# Altium footprint library IPC-7355 QFP_Shrink_Sq_40P_Side_M.PcbLib: 26 footprints (part 2 of 3)
Each footprint in its own frame and in the unit in brackets; x right, y up, seen from the top. Pads: shape width x height; smd on the part's side, far side on the other; paste and mask are expansions set on the pad; w line width, h text height; cw(c..) or ccw(c..) is an arc to the next point about the centre after c.
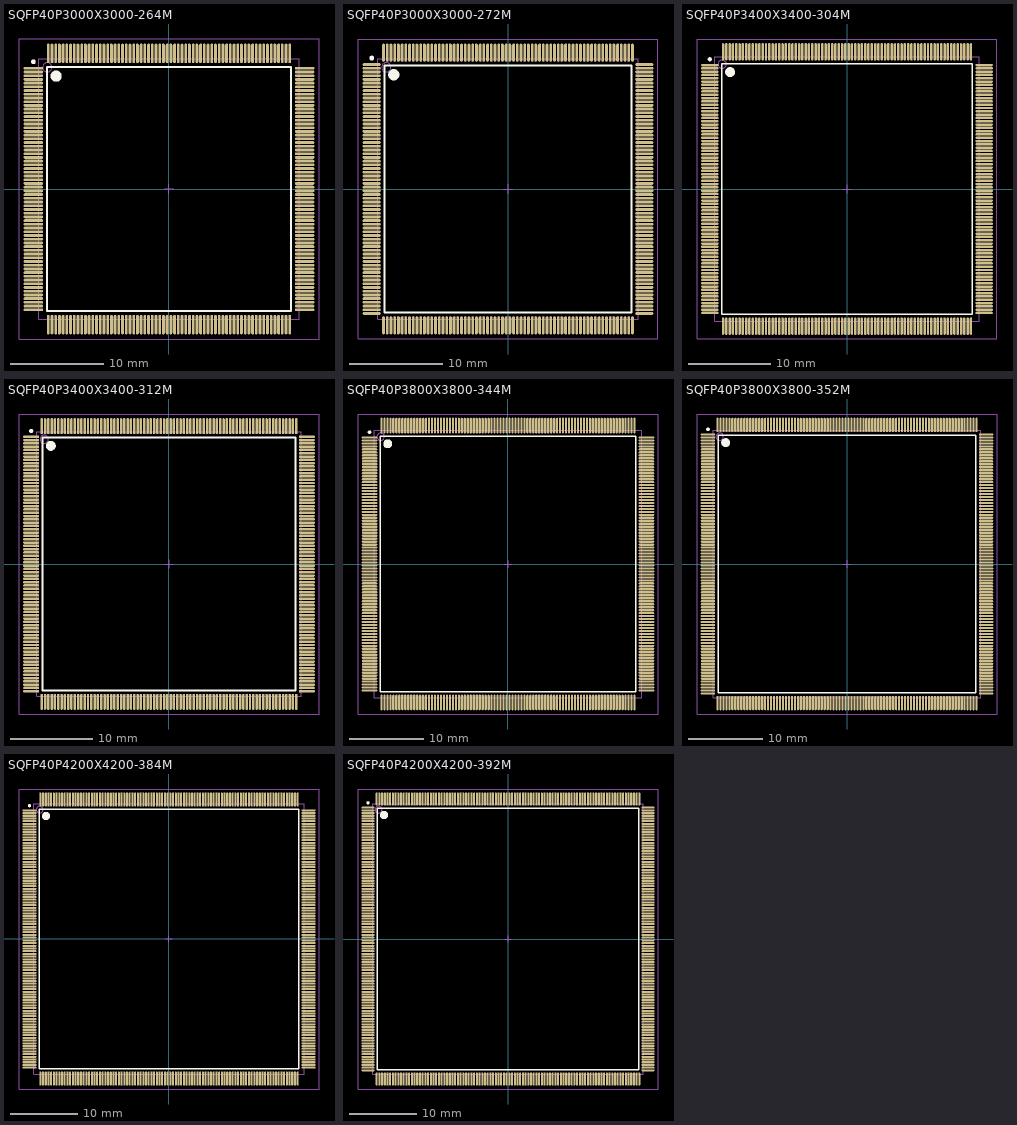
[diagram p1: the footprints below, top view; thin cyan lines are the x and y axes]

## SQFP40P3000X3000-264M [mm] "Shrink QFP, 264-Leads, Body 28x28mm, Pitch 0.4mm, IPC Low Density"
height 3.75
pads (264):
  oval 2.1x0.3 smd: 1(-14.6,13) 2(-14.6,12.6) 3(-14.6,12.2) 4(-14.6,11.8) 5(-14.6,11.4) 6(-14.6,11) 7(-14.6,10.6) 8(-14.6,10.2) 9(-14.6,9.8) 10(-14.6,9.4) 11(-14.6,9) 12(-14.6,8.6) 13(-14.6,8.2) 14(-14.6,7.8) 15(-14.6,7.4) 16(-14.6,7) 17(-14.6,6.6) 18(-14.6,6.2) 19(-14.6,5.8) 20(-14.6,5.4) 21(-14.6,5) 22(-14.6,4.6) 23(-14.6,4.2) 24(-14.6,3.8) 25(-14.6,3.4) 26(-14.6,3) 27(-14.6,2.6) 28(-14.6,2.2) 29(-14.6,1.8) 30(-14.6,1.4) 31(-14.6,1) 32(-14.6,0.6) 33(-14.6,0.2) 34(-14.6,-0.2) 35(-14.6,-0.6) 36(-14.6,-1) 37(-14.6,-1.4) 38(-14.6,-1.8) 39(-14.6,-2.2) 40(-14.6,-2.6) 41(-14.6,-3) 42(-14.6,-3.4) 43(-14.6,-3.8) 44(-14.6,-4.2) 45(-14.6,-4.6) 46(-14.6,-5) 47(-14.6,-5.4) 48(-14.6,-5.8) 49(-14.6,-6.2) 50(-14.6,-6.6) 51(-14.6,-7) 52(-14.6,-7.4) 53(-14.6,-7.8) 54(-14.6,-8.2) 55(-14.6,-8.6) 56(-14.6,-9) 57(-14.6,-9.4) 58(-14.6,-9.8) 59(-14.6,-10.2) 60(-14.6,-10.6) 61(-14.6,-11) 62(-14.6,-11.4) 63(-14.6,-11.8) 64(-14.6,-12.2) 65(-14.6,-12.6) 66(-14.6,-13) 133(14.6,-13) 134(14.6,-12.6) 135(14.6,-12.2) 136(14.6,-11.8) 137(14.6,-11.4) 138(14.6,-11) 139(14.6,-10.6) 140(14.6,-10.2) 141(14.6,-9.8) 142(14.6,-9.4) 143(14.6,-9) 144(14.6,-8.6) 145(14.6,-8.2) 146(14.6,-7.8) 147(14.6,-7.4) 148(14.6,-7) 149(14.6,-6.6) 150(14.6,-6.2) 151(14.6,-5.8) 152(14.6,-5.4) 153(14.6,-5) 154(14.6,-4.6) 155(14.6,-4.2) 156(14.6,-3.8) 157(14.6,-3.4) 158(14.6,-3) 159(14.6,-2.6) 160(14.6,-2.2) 161(14.6,-1.8) 162(14.6,-1.4) 163(14.6,-1) 164(14.6,-0.6) 165(14.6,-0.2) 166(14.6,0.2) 167(14.6,0.6) 168(14.6,1) 169(14.6,1.4) 170(14.6,1.8) 171(14.6,2.2) 172(14.6,2.6) 173(14.6,3) 174(14.6,3.4) 175(14.6,3.8) 176(14.6,4.2) 177(14.6,4.6) 178(14.6,5) 179(14.6,5.4) 180(14.6,5.8) 181(14.6,6.2) 182(14.6,6.6) 183(14.6,7) 184(14.6,7.4) 185(14.6,7.8) 186(14.6,8.2) 187(14.6,8.6) 188(14.6,9) 189(14.6,9.4) 190(14.6,9.8) 191(14.6,10.2) 192(14.6,10.6) 193(14.6,11) 194(14.6,11.4) 195(14.6,11.8) 196(14.6,12.2) 197(14.6,12.6) 198(14.6,13)
  oval 0.3x2.1 smd: 67(-13,-14.6) 68(-12.6,-14.6) 69(-12.2,-14.6) 70(-11.8,-14.6) 71(-11.4,-14.6) 72(-11,-14.6) 73(-10.6,-14.6) 74(-10.2,-14.6) 75(-9.8,-14.6) 76(-9.4,-14.6) 77(-9,-14.6) 78(-8.6,-14.6) 79(-8.2,-14.6) 80(-7.8,-14.6) 81(-7.4,-14.6) 82(-7,-14.6) 83(-6.6,-14.6) 84(-6.2,-14.6) 85(-5.8,-14.6) 86(-5.4,-14.6) 87(-5,-14.6) 88(-4.6,-14.6) 89(-4.2,-14.6) 90(-3.8,-14.6) 91(-3.4,-14.6) 92(-3,-14.6) 93(-2.6,-14.6) 94(-2.2,-14.6) 95(-1.8,-14.6) 96(-1.4,-14.6) 97(-1,-14.6) 98(-0.6,-14.6) 99(-0.2,-14.6) 100(0.2,-14.6) 101(0.6,-14.6) 102(1,-14.6) 103(1.4,-14.6) 104(1.8,-14.6) 105(2.2,-14.6) 106(2.6,-14.6) 107(3,-14.6) 108(3.4,-14.6) 109(3.8,-14.6) 110(4.2,-14.6) 111(4.6,-14.6) 112(5,-14.6) 113(5.4,-14.6) 114(5.8,-14.6) 115(6.2,-14.6) 116(6.6,-14.6) 117(7,-14.6) 118(7.4,-14.6) 119(7.8,-14.6) 120(8.2,-14.6) 121(8.6,-14.6) 122(9,-14.6) 123(9.4,-14.6) 124(9.8,-14.6) 125(10.2,-14.6) 126(10.6,-14.6) 127(11,-14.6) 128(11.4,-14.6) 129(11.8,-14.6) 130(12.2,-14.6) 131(12.6,-14.6) 132(13,-14.6) 199(13,14.6) 200(12.6,14.6) 201(12.2,14.6) 202(11.8,14.6) 203(11.4,14.6) 204(11,14.6) 205(10.6,14.6) 206(10.2,14.6) 207(9.8,14.6) 208(9.4,14.6) 209(9,14.6) 210(8.6,14.6) 211(8.2,14.6) 212(7.8,14.6) 213(7.4,14.6) 214(7,14.6) 215(6.6,14.6) 216(6.2,14.6) 217(5.8,14.6) 218(5.4,14.6) 219(5,14.6) 220(4.6,14.6) 221(4.2,14.6) 222(3.8,14.6) 223(3.4,14.6) 224(3,14.6) 225(2.6,14.6) 226(2.2,14.6) 227(1.8,14.6) 228(1.4,14.6) 229(1,14.6) 230(0.6,14.6) 231(0.2,14.6) 232(-0.2,14.6) 233(-0.6,14.6) 234(-1,14.6) 235(-1.4,14.6) 236(-1.8,14.6) 237(-2.2,14.6) 238(-2.6,14.6) 239(-3,14.6) 240(-3.4,14.6) 241(-3.8,14.6) 242(-4.2,14.6) 243(-4.6,14.6) 244(-5,14.6) 245(-5.4,14.6) 246(-5.8,14.6) 247(-6.2,14.6) 248(-6.6,14.6) 249(-7,14.6) 250(-7.4,14.6) 251(-7.8,14.6) 252(-8.2,14.6) 253(-8.6,14.6) 254(-9,14.6) 255(-9.4,14.6) 256(-9.8,14.6) 257(-10.2,14.6) 258(-10.6,14.6) 259(-11,14.6) 260(-11.4,14.6) 261(-11.8,14.6) 262(-12.2,14.6) 263(-12.6,14.6) 264(-13,14.6)
Top Overlay:
  circle w0.6: c-12.15,12.15 r0.3
  circle w0.25: c-14.6,13.7 r0.125
  lines w0.2: -13.15,-13.15 13.15,-13.15 13.15,13.15 -13.15,13.15 -13.15,-13.15
Mechanical 13:
  circle w0.1: c-13.1,13.1 r0.5
  lines w0.1: -14,-14 14,-14 14,14 -14,14 -14,-14
Mechanical 15:
  lines w0.1: -0.5,0 0.5,0 ; 0,-0.5 0,0.5 ; -16.15,-16.15 16.15,-16.15 16.15,16.15 -16.15,16.15 -16.15,-16.15
3D body: height 3.75, standoff 0, extent -14,-14 14,14

## SQFP40P3000X3000-272M [mm] "Shrink QFP, 272-Leads, Body 28x28mm, Pitch 0.4mm, IPC Low Density"
height 3.75
pads (272):
  oval 1.95x0.3 smd: 1(-14.675,13.4) 2(-14.675,13) 3(-14.675,12.6) 4(-14.675,12.2) 5(-14.675,11.8) 6(-14.675,11.4) 7(-14.675,11) 8(-14.675,10.6) 9(-14.675,10.2) 10(-14.675,9.8) 11(-14.675,9.4) 12(-14.675,9) 13(-14.675,8.6) 14(-14.675,8.2) 15(-14.675,7.8) 16(-14.675,7.4) 17(-14.675,7) 18(-14.675,6.6) 19(-14.675,6.2) 20(-14.675,5.8) 21(-14.675,5.4) 22(-14.675,5) 23(-14.675,4.6) 24(-14.675,4.2) 25(-14.675,3.8) 26(-14.675,3.4) 27(-14.675,3) 28(-14.675,2.6) 29(-14.675,2.2) 30(-14.675,1.8) 31(-14.675,1.4) 32(-14.675,1) 33(-14.675,0.6) 34(-14.675,0.2) 35(-14.675,-0.2) 36(-14.675,-0.6) 37(-14.675,-1) 38(-14.675,-1.4) 39(-14.675,-1.8) 40(-14.675,-2.2) 41(-14.675,-2.6) 42(-14.675,-3) 43(-14.675,-3.4) 44(-14.675,-3.8) 45(-14.675,-4.2) 46(-14.675,-4.6) 47(-14.675,-5) 48(-14.675,-5.4) 49(-14.675,-5.8) 50(-14.675,-6.2) 51(-14.675,-6.6) 52(-14.675,-7) 53(-14.675,-7.4) 54(-14.675,-7.8) 55(-14.675,-8.2) 56(-14.675,-8.6) 57(-14.675,-9) 58(-14.675,-9.4) 59(-14.675,-9.8) 60(-14.675,-10.2) 61(-14.675,-10.6) 62(-14.675,-11) 63(-14.675,-11.4) 64(-14.675,-11.8) 65(-14.675,-12.2) 66(-14.675,-12.6) 67(-14.675,-13) 68(-14.675,-13.4) 137(14.675,-13.4) 138(14.675,-13) 139(14.675,-12.6) 140(14.675,-12.2) 141(14.675,-11.8) 142(14.675,-11.4) 143(14.675,-11) 144(14.675,-10.6) 145(14.675,-10.2) 146(14.675,-9.8) 147(14.675,-9.4) 148(14.675,-9) 149(14.675,-8.6) 150(14.675,-8.2) 151(14.675,-7.8) 152(14.675,-7.4) 153(14.675,-7) 154(14.675,-6.6) 155(14.675,-6.2) 156(14.675,-5.8) 157(14.675,-5.4) 158(14.675,-5) 159(14.675,-4.6) 160(14.675,-4.2) 161(14.675,-3.8) 162(14.675,-3.4) 163(14.675,-3) 164(14.675,-2.6) 165(14.675,-2.2) 166(14.675,-1.8) 167(14.675,-1.4) 168(14.675,-1) 169(14.675,-0.6) 170(14.675,-0.2) 171(14.675,0.2) 172(14.675,0.6) 173(14.675,1) 174(14.675,1.4) 175(14.675,1.8) 176(14.675,2.2) 177(14.675,2.6) 178(14.675,3) 179(14.675,3.4) 180(14.675,3.8) 181(14.675,4.2) 182(14.675,4.6) 183(14.675,5) 184(14.675,5.4) 185(14.675,5.8) 186(14.675,6.2) 187(14.675,6.6) 188(14.675,7) 189(14.675,7.4) 190(14.675,7.8) 191(14.675,8.2) 192(14.675,8.6) 193(14.675,9) 194(14.675,9.4) 195(14.675,9.8) 196(14.675,10.2) 197(14.675,10.6) 198(14.675,11) 199(14.675,11.4) 200(14.675,11.8) 201(14.675,12.2) 202(14.675,12.6) 203(14.675,13) 204(14.675,13.4)
  oval 0.3x1.95 smd: 69(-13.4,-14.675) 70(-13,-14.675) 71(-12.6,-14.675) 72(-12.2,-14.675) 73(-11.8,-14.675) 74(-11.4,-14.675) 75(-11,-14.675) 76(-10.6,-14.675) 77(-10.2,-14.675) 78(-9.8,-14.675) 79(-9.4,-14.675) 80(-9,-14.675) 81(-8.6,-14.675) 82(-8.2,-14.675) 83(-7.8,-14.675) 84(-7.4,-14.675) 85(-7,-14.675) 86(-6.6,-14.675) 87(-6.2,-14.675) 88(-5.8,-14.675) 89(-5.4,-14.675) 90(-5,-14.675) 91(-4.6,-14.675) 92(-4.2,-14.675) 93(-3.8,-14.675) 94(-3.4,-14.675) 95(-3,-14.675) 96(-2.6,-14.675) 97(-2.2,-14.675) 98(-1.8,-14.675) 99(-1.4,-14.675) 100(-1,-14.675) 101(-0.6,-14.675) 102(-0.2,-14.675) 103(0.2,-14.675) 104(0.6,-14.675) 105(1,-14.675) 106(1.4,-14.675) 107(1.8,-14.675) 108(2.2,-14.675) 109(2.6,-14.675) 110(3,-14.675) 111(3.4,-14.675) 112(3.8,-14.675) 113(4.2,-14.675) 114(4.6,-14.675) 115(5,-14.675) 116(5.4,-14.675) 117(5.8,-14.675) 118(6.2,-14.675) 119(6.6,-14.675) 120(7,-14.675) 121(7.4,-14.675) 122(7.8,-14.675) 123(8.2,-14.675) 124(8.6,-14.675) 125(9,-14.675) 126(9.4,-14.675) 127(9.8,-14.675) 128(10.2,-14.675) 129(10.6,-14.675) 130(11,-14.675) 131(11.4,-14.675) 132(11.8,-14.675) 133(12.2,-14.675) 134(12.6,-14.675) 135(13,-14.675) 136(13.4,-14.675) 205(13.4,14.675) 206(13,14.675) 207(12.6,14.675) 208(12.2,14.675) 209(11.8,14.675) 210(11.4,14.675) 211(11,14.675) 212(10.6,14.675) 213(10.2,14.675) 214(9.8,14.675) 215(9.4,14.675) 216(9,14.675) 217(8.6,14.675) 218(8.2,14.675) 219(7.8,14.675) 220(7.4,14.675) 221(7,14.675) 222(6.6,14.675) 223(6.2,14.675) 224(5.8,14.675) 225(5.4,14.675) 226(5,14.675) 227(4.6,14.675) 228(4.2,14.675) 229(3.8,14.675) 230(3.4,14.675) 231(3,14.675) 232(2.6,14.675) 233(2.2,14.675) 234(1.8,14.675) 235(1.4,14.675) 236(1,14.675) 237(0.6,14.675) 238(0.2,14.675) 239(-0.2,14.675) 240(-0.6,14.675) 241(-1,14.675) 242(-1.4,14.675) 243(-1.8,14.675) 244(-2.2,14.675) 245(-2.6,14.675) 246(-3,14.675) 247(-3.4,14.675) 248(-3.8,14.675) 249(-4.2,14.675) 250(-4.6,14.675) 251(-5,14.675) 252(-5.4,14.675) 253(-5.8,14.675) 254(-6.2,14.675) 255(-6.6,14.675) 256(-7,14.675) 257(-7.4,14.675) 258(-7.8,14.675) 259(-8.2,14.675) 260(-8.6,14.675) 261(-9,14.675) 262(-9.4,14.675) 263(-9.8,14.675) 264(-10.2,14.675) 265(-10.6,14.675) 266(-11,14.675) 267(-11.4,14.675) 268(-11.8,14.675) 269(-12.2,14.675) 270(-12.6,14.675) 271(-13,14.675) 272(-13.4,14.675)
Top Overlay:
  circle w0.6: c-12.3,12.3 r0.3
  circle w0.25: c-14.675,14.1 r0.125
  lines w0.2: -13.3,-13.3 13.3,-13.3 13.3,13.3 -13.3,13.3 -13.3,-13.3
Mechanical 13:
  circle w0.1: c-13.1,13.1 r0.5
  lines w0.1: -14,-14 14,-14 14,14 -14,14 -14,-14
Mechanical 15:
  lines w0.1: -0.5,0 0.5,0 ; 0,-0.5 0,0.5 ; -16.15,-16.15 16.15,-16.15 16.15,16.15 -16.15,16.15 -16.15,-16.15
3D body: height 3.75, standoff 0, extent -14,-14 14,14

## SQFP40P3400X3400-304M [mm] "Shrink QFP, 304-Leads, Body 32x32mm, Pitch 0.4mm, IPC Low Density"
height 4.2
pads (304):
  oval 2.1x0.3 smd: 1(-16.6,15) 2(-16.6,14.6) 3(-16.6,14.2) 4(-16.6,13.8) 5(-16.6,13.4) 6(-16.6,13) 7(-16.6,12.6) 8(-16.6,12.2) 9(-16.6,11.8) 10(-16.6,11.4) 11(-16.6,11) 12(-16.6,10.6) 13(-16.6,10.2) 14(-16.6,9.8) 15(-16.6,9.4) 16(-16.6,9) 17(-16.6,8.6) 18(-16.6,8.2) 19(-16.6,7.8) 20(-16.6,7.4) 21(-16.6,7) 22(-16.6,6.6) 23(-16.6,6.2) 24(-16.6,5.8) 25(-16.6,5.4) 26(-16.6,5) 27(-16.6,4.6) 28(-16.6,4.2) 29(-16.6,3.8) 30(-16.6,3.4) 31(-16.6,3) 32(-16.6,2.6) 33(-16.6,2.2) 34(-16.6,1.8) 35(-16.6,1.4) 36(-16.6,1) 37(-16.6,0.6) 38(-16.6,0.2) 39(-16.6,-0.2) 40(-16.6,-0.6) 41(-16.6,-1) 42(-16.6,-1.4) 43(-16.6,-1.8) 44(-16.6,-2.2) 45(-16.6,-2.6) 46(-16.6,-3) 47(-16.6,-3.4) 48(-16.6,-3.8) 49(-16.6,-4.2) 50(-16.6,-4.6) 51(-16.6,-5) 52(-16.6,-5.4) 53(-16.6,-5.8) 54(-16.6,-6.2) 55(-16.6,-6.6) 56(-16.6,-7) 57(-16.6,-7.4) 58(-16.6,-7.8) 59(-16.6,-8.2) 60(-16.6,-8.6) 61(-16.6,-9) 62(-16.6,-9.4) 63(-16.6,-9.8) 64(-16.6,-10.2) 65(-16.6,-10.6) 66(-16.6,-11) 67(-16.6,-11.4) 68(-16.6,-11.8) 69(-16.6,-12.2) 70(-16.6,-12.6) 71(-16.6,-13) 72(-16.6,-13.4) 73(-16.6,-13.8) 74(-16.6,-14.2) 75(-16.6,-14.6) 76(-16.6,-15) 153(16.6,-15) 154(16.6,-14.6) 155(16.6,-14.2) 156(16.6,-13.8) 157(16.6,-13.4) 158(16.6,-13) 159(16.6,-12.6) 160(16.6,-12.2) 161(16.6,-11.8) 162(16.6,-11.4) 163(16.6,-11) 164(16.6,-10.6) 165(16.6,-10.2) 166(16.6,-9.8) 167(16.6,-9.4) 168(16.6,-9) 169(16.6,-8.6) 170(16.6,-8.2) 171(16.6,-7.8) 172(16.6,-7.4) 173(16.6,-7) 174(16.6,-6.6) 175(16.6,-6.2) 176(16.6,-5.8) 177(16.6,-5.4) 178(16.6,-5) 179(16.6,-4.6) 180(16.6,-4.2) 181(16.6,-3.8) 182(16.6,-3.4) 183(16.6,-3) 184(16.6,-2.6) 185(16.6,-2.2) 186(16.6,-1.8) 187(16.6,-1.4) 188(16.6,-1) 189(16.6,-0.6) 190(16.6,-0.2) 191(16.6,0.2) 192(16.6,0.6) 193(16.6,1) 194(16.6,1.4) 195(16.6,1.8) 196(16.6,2.2) 197(16.6,2.6) 198(16.6,3) 199(16.6,3.4) 200(16.6,3.8) 201(16.6,4.2) 202(16.6,4.6) 203(16.6,5) 204(16.6,5.4) 205(16.6,5.8) 206(16.6,6.2) 207(16.6,6.6) 208(16.6,7) 209(16.6,7.4) 210(16.6,7.8) 211(16.6,8.2) 212(16.6,8.6) 213(16.6,9) 214(16.6,9.4) 215(16.6,9.8) 216(16.6,10.2) 217(16.6,10.6) 218(16.6,11) 219(16.6,11.4) 220(16.6,11.8) 221(16.6,12.2) 222(16.6,12.6) 223(16.6,13) 224(16.6,13.4) 225(16.6,13.8) 226(16.6,14.2) 227(16.6,14.6) 228(16.6,15)
  oval 0.3x2.1 smd: 77(-15,-16.6) 78(-14.6,-16.6) 79(-14.2,-16.6) 80(-13.8,-16.6) 81(-13.4,-16.6) 82(-13,-16.6) 83(-12.6,-16.6) 84(-12.2,-16.6) 85(-11.8,-16.6) 86(-11.4,-16.6) 87(-11,-16.6) 88(-10.6,-16.6) 89(-10.2,-16.6) 90(-9.8,-16.6) 91(-9.4,-16.6) 92(-9,-16.6) 93(-8.6,-16.6) 94(-8.2,-16.6) 95(-7.8,-16.6) 96(-7.4,-16.6) 97(-7,-16.6) 98(-6.6,-16.6) 99(-6.2,-16.6) 100(-5.8,-16.6) 101(-5.4,-16.6) 102(-5,-16.6) 103(-4.6,-16.6) 104(-4.2,-16.6) 105(-3.8,-16.6) 106(-3.4,-16.6) 107(-3,-16.6) 108(-2.6,-16.6) 109(-2.2,-16.6) 110(-1.8,-16.6) 111(-1.4,-16.6) 112(-1,-16.6) 113(-0.6,-16.6) 114(-0.2,-16.6) 115(0.2,-16.6) 116(0.6,-16.6) 117(1,-16.6) 118(1.4,-16.6) 119(1.8,-16.6) 120(2.2,-16.6) 121(2.6,-16.6) 122(3,-16.6) 123(3.4,-16.6) 124(3.8,-16.6) 125(4.2,-16.6) 126(4.6,-16.6) 127(5,-16.6) 128(5.4,-16.6) 129(5.8,-16.6) 130(6.2,-16.6) 131(6.6,-16.6) 132(7,-16.6) 133(7.4,-16.6) 134(7.8,-16.6) 135(8.2,-16.6) 136(8.6,-16.6) 137(9,-16.6) 138(9.4,-16.6) 139(9.8,-16.6) 140(10.2,-16.6) 141(10.6,-16.6) 142(11,-16.6) 143(11.4,-16.6) 144(11.8,-16.6) 145(12.2,-16.6) 146(12.6,-16.6) 147(13,-16.6) 148(13.4,-16.6) 149(13.8,-16.6) 150(14.2,-16.6) 151(14.6,-16.6) 152(15,-16.6) 229(15,16.6) 230(14.6,16.6) 231(14.2,16.6) 232(13.8,16.6) 233(13.4,16.6) 234(13,16.6) 235(12.6,16.6) 236(12.2,16.6) 237(11.8,16.6) 238(11.4,16.6) 239(11,16.6) 240(10.6,16.6) 241(10.2,16.6) 242(9.8,16.6) 243(9.4,16.6) 244(9,16.6) 245(8.6,16.6) 246(8.2,16.6) 247(7.8,16.6) 248(7.4,16.6) 249(7,16.6) 250(6.6,16.6) 251(6.2,16.6) 252(5.8,16.6) 253(5.4,16.6) 254(5,16.6) 255(4.6,16.6) 256(4.2,16.6) 257(3.8,16.6) 258(3.4,16.6) 259(3,16.6) 260(2.6,16.6) 261(2.2,16.6) 262(1.8,16.6) 263(1.4,16.6) 264(1,16.6) 265(0.6,16.6) 266(0.2,16.6) 267(-0.2,16.6) 268(-0.6,16.6) 269(-1,16.6) 270(-1.4,16.6) 271(-1.8,16.6) 272(-2.2,16.6) 273(-2.6,16.6) 274(-3,16.6) 275(-3.4,16.6) 276(-3.8,16.6) 277(-4.2,16.6) 278(-4.6,16.6) 279(-5,16.6) 280(-5.4,16.6) 281(-5.8,16.6) 282(-6.2,16.6) 283(-6.6,16.6) 284(-7,16.6) 285(-7.4,16.6) 286(-7.8,16.6) 287(-8.2,16.6) 288(-8.6,16.6) 289(-9,16.6) 290(-9.4,16.6) 291(-9.8,16.6) 292(-10.2,16.6) 293(-10.6,16.6) 294(-11,16.6) 295(-11.4,16.6) 296(-11.8,16.6) 297(-12.2,16.6) 298(-12.6,16.6) 299(-13,16.6) 300(-13.4,16.6) 301(-13.8,16.6) 302(-14.2,16.6) 303(-14.6,16.6) 304(-15,16.6)
Top Overlay:
  circle w0.6: c-14.15,14.15 r0.3
  circle w0.25: c-16.6,15.7 r0.125
  lines w0.2: -15.15,-15.15 15.15,-15.15 15.15,15.15 -15.15,15.15 -15.15,-15.15
Mechanical 13:
  circle w0.1: c-15.1,15.1 r0.5
  lines w0.1: -16,-16 16,-16 16,16 -16,16 -16,-16
Mechanical 15:
  lines w0.1: -0.5,0 0.5,0 ; 0,-0.5 0,0.5 ; -18.15,-18.15 18.15,-18.15 18.15,18.15 -18.15,18.15 -18.15,-18.15
3D body: height 4.2, standoff 0, extent -16,-16 16,16

## SQFP40P3400X3400-312M [mm] "Shrink QFP, 312-Leads, Body 32x32mm, Pitch 0.4mm, IPC Low Density"
height 4.2
pads (312):
  oval 1.95x0.3 smd: 1(-16.675,15.4) 2(-16.675,15) 3(-16.675,14.6) 4(-16.675,14.2) 5(-16.675,13.8) 6(-16.675,13.4) 7(-16.675,13) 8(-16.675,12.6) 9(-16.675,12.2) 10(-16.675,11.8) 11(-16.675,11.4) 12(-16.675,11) 13(-16.675,10.6) 14(-16.675,10.2) 15(-16.675,9.8) 16(-16.675,9.4) 17(-16.675,9) 18(-16.675,8.6) 19(-16.675,8.2) 20(-16.675,7.8) 21(-16.675,7.4) 22(-16.675,7) 23(-16.675,6.6) 24(-16.675,6.2) 25(-16.675,5.8) 26(-16.675,5.4) 27(-16.675,5) 28(-16.675,4.6) 29(-16.675,4.2) 30(-16.675,3.8) 31(-16.675,3.4) 32(-16.675,3) 33(-16.675,2.6) 34(-16.675,2.2) 35(-16.675,1.8) 36(-16.675,1.4) 37(-16.675,1) 38(-16.675,0.6) 39(-16.675,0.2) 40(-16.675,-0.2) 41(-16.675,-0.6) 42(-16.675,-1) 43(-16.675,-1.4) 44(-16.675,-1.8) 45(-16.675,-2.2) 46(-16.675,-2.6) 47(-16.675,-3) 48(-16.675,-3.4) 49(-16.675,-3.8) 50(-16.675,-4.2) 51(-16.675,-4.6) 52(-16.675,-5) 53(-16.675,-5.4) 54(-16.675,-5.8) 55(-16.675,-6.2) 56(-16.675,-6.6) 57(-16.675,-7) 58(-16.675,-7.4) 59(-16.675,-7.8) 60(-16.675,-8.2) 61(-16.675,-8.6) 62(-16.675,-9) 63(-16.675,-9.4) 64(-16.675,-9.8) 65(-16.675,-10.2) 66(-16.675,-10.6) 67(-16.675,-11) 68(-16.675,-11.4) 69(-16.675,-11.8) 70(-16.675,-12.2) 71(-16.675,-12.6) 72(-16.675,-13) 73(-16.675,-13.4) 74(-16.675,-13.8) 75(-16.675,-14.2) 76(-16.675,-14.6) 77(-16.675,-15) 78(-16.675,-15.4) 157(16.675,-15.4) 158(16.675,-15) 159(16.675,-14.6) 160(16.675,-14.2) 161(16.675,-13.8) 162(16.675,-13.4) 163(16.675,-13) 164(16.675,-12.6) 165(16.675,-12.2) 166(16.675,-11.8) 167(16.675,-11.4) 168(16.675,-11) 169(16.675,-10.6) 170(16.675,-10.2) 171(16.675,-9.8) 172(16.675,-9.4) 173(16.675,-9) 174(16.675,-8.6) 175(16.675,-8.2) 176(16.675,-7.8) 177(16.675,-7.4) 178(16.675,-7) 179(16.675,-6.6) 180(16.675,-6.2) 181(16.675,-5.8) 182(16.675,-5.4) 183(16.675,-5) 184(16.675,-4.6) 185(16.675,-4.2) 186(16.675,-3.8) 187(16.675,-3.4) 188(16.675,-3) 189(16.675,-2.6) 190(16.675,-2.2) 191(16.675,-1.8) 192(16.675,-1.4) 193(16.675,-1) 194(16.675,-0.6) 195(16.675,-0.2) 196(16.675,0.2) 197(16.675,0.6) 198(16.675,1) 199(16.675,1.4) 200(16.675,1.8) 201(16.675,2.2) 202(16.675,2.6) 203(16.675,3) 204(16.675,3.4) 205(16.675,3.8) 206(16.675,4.2) 207(16.675,4.6) 208(16.675,5) 209(16.675,5.4) 210(16.675,5.8) 211(16.675,6.2) 212(16.675,6.6) 213(16.675,7) 214(16.675,7.4) 215(16.675,7.8) 216(16.675,8.2) 217(16.675,8.6) 218(16.675,9) 219(16.675,9.4) 220(16.675,9.8) 221(16.675,10.2) 222(16.675,10.6) 223(16.675,11) 224(16.675,11.4) 225(16.675,11.8) 226(16.675,12.2) 227(16.675,12.6) 228(16.675,13) 229(16.675,13.4) 230(16.675,13.8) 231(16.675,14.2) 232(16.675,14.6) 233(16.675,15) 234(16.675,15.4)
  oval 0.3x1.95 smd: 79(-15.4,-16.675) 80(-15,-16.675) 81(-14.6,-16.675) 82(-14.2,-16.675) 83(-13.8,-16.675) 84(-13.4,-16.675) 85(-13,-16.675) 86(-12.6,-16.675) 87(-12.2,-16.675) 88(-11.8,-16.675) 89(-11.4,-16.675) 90(-11,-16.675) 91(-10.6,-16.675) 92(-10.2,-16.675) 93(-9.8,-16.675) 94(-9.4,-16.675) 95(-9,-16.675) 96(-8.6,-16.675) 97(-8.2,-16.675) 98(-7.8,-16.675) 99(-7.4,-16.675) 100(-7,-16.675) 101(-6.6,-16.675) 102(-6.2,-16.675) 103(-5.8,-16.675) 104(-5.4,-16.675) 105(-5,-16.675) 106(-4.6,-16.675) 107(-4.2,-16.675) 108(-3.8,-16.675) 109(-3.4,-16.675) 110(-3,-16.675) 111(-2.6,-16.675) 112(-2.2,-16.675) 113(-1.8,-16.675) 114(-1.4,-16.675) 115(-1,-16.675) 116(-0.6,-16.675) 117(-0.2,-16.675) 118(0.2,-16.675) 119(0.6,-16.675) 120(1,-16.675) 121(1.4,-16.675) 122(1.8,-16.675) 123(2.2,-16.675) 124(2.6,-16.675) 125(3,-16.675) 126(3.4,-16.675) 127(3.8,-16.675) 128(4.2,-16.675) 129(4.6,-16.675) 130(5,-16.675) 131(5.4,-16.675) 132(5.8,-16.675) 133(6.2,-16.675) 134(6.6,-16.675) 135(7,-16.675) 136(7.4,-16.675) 137(7.8,-16.675) 138(8.2,-16.675) 139(8.6,-16.675) 140(9,-16.675) 141(9.4,-16.675) 142(9.8,-16.675) 143(10.2,-16.675) 144(10.6,-16.675) 145(11,-16.675) 146(11.4,-16.675) 147(11.8,-16.675) 148(12.2,-16.675) 149(12.6,-16.675) 150(13,-16.675) 151(13.4,-16.675) 152(13.8,-16.675) 153(14.2,-16.675) 154(14.6,-16.675) 155(15,-16.675) 156(15.4,-16.675) 235(15.4,16.675) 236(15,16.675) 237(14.6,16.675) 238(14.2,16.675) 239(13.8,16.675) 240(13.4,16.675) 241(13,16.675) 242(12.6,16.675) 243(12.2,16.675) 244(11.8,16.675) 245(11.4,16.675) 246(11,16.675) 247(10.6,16.675) 248(10.2,16.675) 249(9.8,16.675) 250(9.4,16.675) 251(9,16.675) 252(8.6,16.675) 253(8.2,16.675) 254(7.8,16.675) 255(7.4,16.675) 256(7,16.675) 257(6.6,16.675) 258(6.2,16.675) 259(5.8,16.675) 260(5.4,16.675) 261(5,16.675) 262(4.6,16.675) 263(4.2,16.675) 264(3.8,16.675) 265(3.4,16.675) 266(3,16.675) 267(2.6,16.675) 268(2.2,16.675) 269(1.8,16.675) 270(1.4,16.675) 271(1,16.675) 272(0.6,16.675) 273(0.2,16.675) 274(-0.2,16.675) 275(-0.6,16.675) 276(-1,16.675) 277(-1.4,16.675) 278(-1.8,16.675) 279(-2.2,16.675) 280(-2.6,16.675) 281(-3,16.675) 282(-3.4,16.675) 283(-3.8,16.675) 284(-4.2,16.675) 285(-4.6,16.675) 286(-5,16.675) 287(-5.4,16.675) 288(-5.8,16.675) 289(-6.2,16.675) 290(-6.6,16.675) 291(-7,16.675) 292(-7.4,16.675) 293(-7.8,16.675) 294(-8.2,16.675) 295(-8.6,16.675) 296(-9,16.675) 297(-9.4,16.675) 298(-9.8,16.675) 299(-10.2,16.675) 300(-10.6,16.675) 301(-11,16.675) 302(-11.4,16.675) 303(-11.8,16.675) 304(-12.2,16.675) 305(-12.6,16.675) 306(-13,16.675) 307(-13.4,16.675) 308(-13.8,16.675) 309(-14.2,16.675) 310(-14.6,16.675) 311(-15,16.675) 312(-15.4,16.675)
Top Overlay:
  circle w0.6: c-14.3,14.3 r0.3
  circle w0.25: c-16.675,16.1 r0.125
  lines w0.2: -15.3,-15.3 15.3,-15.3 15.3,15.3 -15.3,15.3 -15.3,-15.3
Mechanical 13:
  circle w0.1: c-15.1,15.1 r0.5
  lines w0.1: -16,-16 16,-16 16,16 -16,16 -16,-16
Mechanical 15:
  lines w0.1: -0.5,0 0.5,0 ; 0,-0.5 0,0.5 ; -18.15,-18.15 18.15,-18.15 18.15,18.15 -18.15,18.15 -18.15,-18.15
3D body: height 4.2, standoff 0, extent -16,-16 16,16

## SQFP40P3800X3800-344M [mm] "Shrink QFP, 344-Leads, Body 36x36mm, Pitch 0.4mm, IPC Low Density"
height 4.2
pads (344):
  oval 2.1x0.3 smd: 1(-18.6,17) 2(-18.6,16.6) 3(-18.6,16.2) 4(-18.6,15.8) 5(-18.6,15.4) 6(-18.6,15) 7(-18.6,14.6) 8(-18.6,14.2) 9(-18.6,13.8) 10(-18.6,13.4) 11(-18.6,13) 12(-18.6,12.6) 13(-18.6,12.2) 14(-18.6,11.8) 15(-18.6,11.4) 16(-18.6,11) 17(-18.6,10.6) 18(-18.6,10.2) 19(-18.6,9.8) 20(-18.6,9.4) 21(-18.6,9) 22(-18.6,8.6) 23(-18.6,8.2) 24(-18.6,7.8) 25(-18.6,7.4) 26(-18.6,7) 27(-18.6,6.6) 28(-18.6,6.2) 29(-18.6,5.8) 30(-18.6,5.4) 31(-18.6,5) 32(-18.6,4.6) 33(-18.6,4.2) 34(-18.6,3.8) 35(-18.6,3.4) 36(-18.6,3) 37(-18.6,2.6) 38(-18.6,2.2) 39(-18.6,1.8) 40(-18.6,1.4) 41(-18.6,1) 42(-18.6,0.6) 43(-18.6,0.2) 44(-18.6,-0.2) 45(-18.6,-0.6) 46(-18.6,-1) 47(-18.6,-1.4) 48(-18.6,-1.8) 49(-18.6,-2.2) 50(-18.6,-2.6) 51(-18.6,-3) 52(-18.6,-3.4) 53(-18.6,-3.8) 54(-18.6,-4.2) 55(-18.6,-4.6) 56(-18.6,-5) 57(-18.6,-5.4) 58(-18.6,-5.8) 59(-18.6,-6.2) 60(-18.6,-6.6) 61(-18.6,-7) 62(-18.6,-7.4) 63(-18.6,-7.8) 64(-18.6,-8.2) 65(-18.6,-8.6) 66(-18.6,-9) 67(-18.6,-9.4) 68(-18.6,-9.8) 69(-18.6,-10.2) 70(-18.6,-10.6) 71(-18.6,-11) 72(-18.6,-11.4) 73(-18.6,-11.8) 74(-18.6,-12.2) 75(-18.6,-12.6) 76(-18.6,-13) 77(-18.6,-13.4) 78(-18.6,-13.8) 79(-18.6,-14.2) 80(-18.6,-14.6) 81(-18.6,-15) 82(-18.6,-15.4) 83(-18.6,-15.8) 84(-18.6,-16.2) 85(-18.6,-16.6) 86(-18.6,-17) 173(18.6,-17) 174(18.6,-16.6) 175(18.6,-16.2) 176(18.6,-15.8) 177(18.6,-15.4) 178(18.6,-15) 179(18.6,-14.6) 180(18.6,-14.2) 181(18.6,-13.8) 182(18.6,-13.4) 183(18.6,-13) 184(18.6,-12.6) 185(18.6,-12.2) 186(18.6,-11.8) 187(18.6,-11.4) 188(18.6,-11) 189(18.6,-10.6) 190(18.6,-10.2) 191(18.6,-9.8) 192(18.6,-9.4) 193(18.6,-9) 194(18.6,-8.6) 195(18.6,-8.2) 196(18.6,-7.8) 197(18.6,-7.4) 198(18.6,-7) 199(18.6,-6.6) 200(18.6,-6.2) 201(18.6,-5.8) 202(18.6,-5.4) 203(18.6,-5) 204(18.6,-4.6) 205(18.6,-4.2) 206(18.6,-3.8) 207(18.6,-3.4) 208(18.6,-3) 209(18.6,-2.6) 210(18.6,-2.2) 211(18.6,-1.8) 212(18.6,-1.4) 213(18.6,-1) 214(18.6,-0.6) 215(18.6,-0.2) 216(18.6,0.2) 217(18.6,0.6) 218(18.6,1) 219(18.6,1.4) 220(18.6,1.8) 221(18.6,2.2) 222(18.6,2.6) 223(18.6,3) 224(18.6,3.4) 225(18.6,3.8) 226(18.6,4.2) 227(18.6,4.6) 228(18.6,5) 229(18.6,5.4) 230(18.6,5.8) 231(18.6,6.2) 232(18.6,6.6) 233(18.6,7) 234(18.6,7.4) 235(18.6,7.8) 236(18.6,8.2) 237(18.6,8.6) 238(18.6,9) 239(18.6,9.4) 240(18.6,9.8) 241(18.6,10.2) 242(18.6,10.6) 243(18.6,11) 244(18.6,11.4) 245(18.6,11.8) 246(18.6,12.2) 247(18.6,12.6) 248(18.6,13) 249(18.6,13.4) 250(18.6,13.8) 251(18.6,14.2) 252(18.6,14.6) 253(18.6,15) 254(18.6,15.4) 255(18.6,15.8) 256(18.6,16.2) 257(18.6,16.6) 258(18.6,17)
  oval 0.3x2.1 smd: 87(-17,-18.6) 88(-16.6,-18.6) 89(-16.2,-18.6) 90(-15.8,-18.6) 91(-15.4,-18.6) 92(-15,-18.6) 93(-14.6,-18.6) 94(-14.2,-18.6) 95(-13.8,-18.6) 96(-13.4,-18.6) 97(-13,-18.6) 98(-12.6,-18.6) 99(-12.2,-18.6) 100(-11.8,-18.6) 101(-11.4,-18.6) 102(-11,-18.6) 103(-10.6,-18.6) 104(-10.2,-18.6) 105(-9.8,-18.6) 106(-9.4,-18.6) 107(-9,-18.6) 108(-8.6,-18.6) 109(-8.2,-18.6) 110(-7.8,-18.6) 111(-7.4,-18.6) 112(-7,-18.6) 113(-6.6,-18.6) 114(-6.2,-18.6) 115(-5.8,-18.6) 116(-5.4,-18.6) 117(-5,-18.6) 118(-4.6,-18.6) 119(-4.2,-18.6) 120(-3.8,-18.6) 121(-3.4,-18.6) 122(-3,-18.6) 123(-2.6,-18.6) 124(-2.2,-18.6) 125(-1.8,-18.6) 126(-1.4,-18.6) 127(-1,-18.6) 128(-0.6,-18.6) 129(-0.2,-18.6) 130(0.2,-18.6) 131(0.6,-18.6) 132(1,-18.6) 133(1.4,-18.6) 134(1.8,-18.6) 135(2.2,-18.6) 136(2.6,-18.6) 137(3,-18.6) 138(3.4,-18.6) 139(3.8,-18.6) 140(4.2,-18.6) 141(4.6,-18.6) 142(5,-18.6) 143(5.4,-18.6) 144(5.8,-18.6) 145(6.2,-18.6) 146(6.6,-18.6) 147(7,-18.6) 148(7.4,-18.6) 149(7.8,-18.6) 150(8.2,-18.6) 151(8.6,-18.6) 152(9,-18.6) 153(9.4,-18.6) 154(9.8,-18.6) 155(10.2,-18.6) 156(10.6,-18.6) 157(11,-18.6) 158(11.4,-18.6) 159(11.8,-18.6) 160(12.2,-18.6) 161(12.6,-18.6) 162(13,-18.6) 163(13.4,-18.6) 164(13.8,-18.6) 165(14.2,-18.6) 166(14.6,-18.6) 167(15,-18.6) 168(15.4,-18.6) 169(15.8,-18.6) 170(16.2,-18.6) 171(16.6,-18.6) 172(17,-18.6) 259(17,18.6) 260(16.6,18.6) 261(16.2,18.6) 262(15.8,18.6) 263(15.4,18.6) 264(15,18.6) 265(14.6,18.6) 266(14.2,18.6) 267(13.8,18.6) 268(13.4,18.6) 269(13,18.6) 270(12.6,18.6) 271(12.2,18.6) 272(11.8,18.6) 273(11.4,18.6) 274(11,18.6) 275(10.6,18.6) 276(10.2,18.6) 277(9.8,18.6) 278(9.4,18.6) 279(9,18.6) 280(8.6,18.6) 281(8.2,18.6) 282(7.8,18.6) 283(7.4,18.6) 284(7,18.6) 285(6.6,18.6) 286(6.2,18.6) 287(5.8,18.6) 288(5.4,18.6) 289(5,18.6) 290(4.6,18.6) 291(4.2,18.6) 292(3.8,18.6) 293(3.4,18.6) 294(3,18.6) 295(2.6,18.6) 296(2.2,18.6) 297(1.8,18.6) 298(1.4,18.6) 299(1,18.6) 300(0.6,18.6) 301(0.2,18.6) 302(-0.2,18.6) 303(-0.6,18.6) 304(-1,18.6) 305(-1.4,18.6) 306(-1.8,18.6) 307(-2.2,18.6) 308(-2.6,18.6) 309(-3,18.6) 310(-3.4,18.6) 311(-3.8,18.6) 312(-4.2,18.6) 313(-4.6,18.6) 314(-5,18.6) 315(-5.4,18.6) 316(-5.8,18.6) 317(-6.2,18.6) 318(-6.6,18.6) 319(-7,18.6) 320(-7.4,18.6) 321(-7.8,18.6) 322(-8.2,18.6) 323(-8.6,18.6) 324(-9,18.6) 325(-9.4,18.6) 326(-9.8,18.6) 327(-10.2,18.6) 328(-10.6,18.6) 329(-11,18.6) 330(-11.4,18.6) 331(-11.8,18.6) 332(-12.2,18.6) 333(-12.6,18.6) 334(-13,18.6) 335(-13.4,18.6) 336(-13.8,18.6) 337(-14.2,18.6) 338(-14.6,18.6) 339(-15,18.6) 340(-15.4,18.6) 341(-15.8,18.6) 342(-16.2,18.6) 343(-16.6,18.6) 344(-17,18.6)
Top Overlay:
  circle w0.6: c-16.15,16.15 r0.3
  circle w0.25: c-18.6,17.7 r0.125
  lines w0.2: -17.15,-17.15 17.15,-17.15 17.15,17.15 -17.15,17.15 -17.15,-17.15
Mechanical 13:
  circle w0.1: c-17.1,17.1 r0.5
  lines w0.1: -18,-18 18,-18 18,18 -18,18 -18,-18
Mechanical 15:
  lines w0.1: -0.5,0 0.5,0 ; 0,-0.5 0,0.5 ; -20.15,-20.15 20.15,-20.15 20.15,20.15 -20.15,20.15 -20.15,-20.15
3D body: height 4.2, standoff 0, extent -18,-18 18,18

## SQFP40P3800X3800-352M [mm] "Shrink QFP, 352-Leads, Body 36x36mm, Pitch 0.4mm, IPC Low Density"
height 4.2
pads (352):
  oval 1.95x0.3 smd: 1(-18.675,17.4) 2(-18.675,17) 3(-18.675,16.6) 4(-18.675,16.2) 5(-18.675,15.8) 6(-18.675,15.4) 7(-18.675,15) 8(-18.675,14.6) 9(-18.675,14.2) 10(-18.675,13.8) 11(-18.675,13.4) 12(-18.675,13) 13(-18.675,12.6) 14(-18.675,12.2) 15(-18.675,11.8) 16(-18.675,11.4) 17(-18.675,11) 18(-18.675,10.6) 19(-18.675,10.2) 20(-18.675,9.8) 21(-18.675,9.4) 22(-18.675,9) 23(-18.675,8.6) 24(-18.675,8.2) 25(-18.675,7.8) 26(-18.675,7.4) 27(-18.675,7) 28(-18.675,6.6) 29(-18.675,6.2) 30(-18.675,5.8) 31(-18.675,5.4) 32(-18.675,5) 33(-18.675,4.6) 34(-18.675,4.2) 35(-18.675,3.8) 36(-18.675,3.4) 37(-18.675,3) 38(-18.675,2.6) 39(-18.675,2.2) 40(-18.675,1.8) 41(-18.675,1.4) 42(-18.675,1) 43(-18.675,0.6) 44(-18.675,0.2) 45(-18.675,-0.2) 46(-18.675,-0.6) 47(-18.675,-1) 48(-18.675,-1.4) 49(-18.675,-1.8) 50(-18.675,-2.2) 51(-18.675,-2.6) 52(-18.675,-3) 53(-18.675,-3.4) 54(-18.675,-3.8) 55(-18.675,-4.2) 56(-18.675,-4.6) 57(-18.675,-5) 58(-18.675,-5.4) 59(-18.675,-5.8) 60(-18.675,-6.2) 61(-18.675,-6.6) 62(-18.675,-7) 63(-18.675,-7.4) 64(-18.675,-7.8) 65(-18.675,-8.2) 66(-18.675,-8.6) 67(-18.675,-9) 68(-18.675,-9.4) 69(-18.675,-9.8) 70(-18.675,-10.2) 71(-18.675,-10.6) 72(-18.675,-11) 73(-18.675,-11.4) 74(-18.675,-11.8) 75(-18.675,-12.2) 76(-18.675,-12.6) 77(-18.675,-13) 78(-18.675,-13.4) 79(-18.675,-13.8) 80(-18.675,-14.2) 81(-18.675,-14.6) 82(-18.675,-15) 83(-18.675,-15.4) 84(-18.675,-15.8) 85(-18.675,-16.2) 86(-18.675,-16.6) 87(-18.675,-17) 88(-18.675,-17.4) 177(18.675,-17.4) 178(18.675,-17) 179(18.675,-16.6) 180(18.675,-16.2) 181(18.675,-15.8) 182(18.675,-15.4) 183(18.675,-15) 184(18.675,-14.6) 185(18.675,-14.2) 186(18.675,-13.8) 187(18.675,-13.4) 188(18.675,-13) 189(18.675,-12.6) 190(18.675,-12.2) 191(18.675,-11.8) 192(18.675,-11.4) 193(18.675,-11) 194(18.675,-10.6) 195(18.675,-10.2) 196(18.675,-9.8) 197(18.675,-9.4) 198(18.675,-9) 199(18.675,-8.6) 200(18.675,-8.2) 201(18.675,-7.8) 202(18.675,-7.4) 203(18.675,-7) 204(18.675,-6.6) 205(18.675,-6.2) 206(18.675,-5.8) 207(18.675,-5.4) 208(18.675,-5) 209(18.675,-4.6) 210(18.675,-4.2) 211(18.675,-3.8) 212(18.675,-3.4) 213(18.675,-3) 214(18.675,-2.6) 215(18.675,-2.2) 216(18.675,-1.8) 217(18.675,-1.4) 218(18.675,-1) 219(18.675,-0.6) 220(18.675,-0.2) 221(18.675,0.2) 222(18.675,0.6) 223(18.675,1) 224(18.675,1.4) 225(18.675,1.8) 226(18.675,2.2) 227(18.675,2.6) 228(18.675,3) 229(18.675,3.4) 230(18.675,3.8) 231(18.675,4.2) 232(18.675,4.6) 233(18.675,5) 234(18.675,5.4) 235(18.675,5.8) 236(18.675,6.2) 237(18.675,6.6) 238(18.675,7) 239(18.675,7.4) 240(18.675,7.8) 241(18.675,8.2) 242(18.675,8.6) 243(18.675,9) 244(18.675,9.4) 245(18.675,9.8) 246(18.675,10.2) 247(18.675,10.6) 248(18.675,11) 249(18.675,11.4) 250(18.675,11.8) 251(18.675,12.2) 252(18.675,12.6) 253(18.675,13) 254(18.675,13.4) 255(18.675,13.8) 256(18.675,14.2) 257(18.675,14.6) 258(18.675,15) 259(18.675,15.4) 260(18.675,15.8) 261(18.675,16.2) 262(18.675,16.6) 263(18.675,17) 264(18.675,17.4)
  oval 0.3x1.95 smd: 89(-17.4,-18.675) 90(-17,-18.675) 91(-16.6,-18.675) 92(-16.2,-18.675) 93(-15.8,-18.675) 94(-15.4,-18.675) 95(-15,-18.675) 96(-14.6,-18.675) 97(-14.2,-18.675) 98(-13.8,-18.675) 99(-13.4,-18.675) 100(-13,-18.675) 101(-12.6,-18.675) 102(-12.2,-18.675) 103(-11.8,-18.675) 104(-11.4,-18.675) 105(-11,-18.675) 106(-10.6,-18.675) 107(-10.2,-18.675) 108(-9.8,-18.675) 109(-9.4,-18.675) 110(-9,-18.675) 111(-8.6,-18.675) 112(-8.2,-18.675) 113(-7.8,-18.675) 114(-7.4,-18.675) 115(-7,-18.675) 116(-6.6,-18.675) 117(-6.2,-18.675) 118(-5.8,-18.675) 119(-5.4,-18.675) 120(-5,-18.675) 121(-4.6,-18.675) 122(-4.2,-18.675) 123(-3.8,-18.675) 124(-3.4,-18.675) 125(-3,-18.675) 126(-2.6,-18.675) 127(-2.2,-18.675) 128(-1.8,-18.675) 129(-1.4,-18.675) 130(-1,-18.675) 131(-0.6,-18.675) 132(-0.2,-18.675) 133(0.2,-18.675) 134(0.6,-18.675) 135(1,-18.675) 136(1.4,-18.675) 137(1.8,-18.675) 138(2.2,-18.675) 139(2.6,-18.675) 140(3,-18.675) 141(3.4,-18.675) 142(3.8,-18.675) 143(4.2,-18.675) 144(4.6,-18.675) 145(5,-18.675) 146(5.4,-18.675) 147(5.8,-18.675) 148(6.2,-18.675) 149(6.6,-18.675) 150(7,-18.675) 151(7.4,-18.675) 152(7.8,-18.675) 153(8.2,-18.675) 154(8.6,-18.675) 155(9,-18.675) 156(9.4,-18.675) 157(9.8,-18.675) 158(10.2,-18.675) 159(10.6,-18.675) 160(11,-18.675) 161(11.4,-18.675) 162(11.8,-18.675) 163(12.2,-18.675) 164(12.6,-18.675) 165(13,-18.675) 166(13.4,-18.675) 167(13.8,-18.675) 168(14.2,-18.675) 169(14.6,-18.675) 170(15,-18.675) 171(15.4,-18.675) 172(15.8,-18.675) 173(16.2,-18.675) 174(16.6,-18.675) 175(17,-18.675) 176(17.4,-18.675) 265(17.4,18.675) 266(17,18.675) 267(16.6,18.675) 268(16.2,18.675) 269(15.8,18.675) 270(15.4,18.675) 271(15,18.675) 272(14.6,18.675) 273(14.2,18.675) 274(13.8,18.675) 275(13.4,18.675) 276(13,18.675) 277(12.6,18.675) 278(12.2,18.675) 279(11.8,18.675) 280(11.4,18.675) 281(11,18.675) 282(10.6,18.675) 283(10.2,18.675) 284(9.8,18.675) 285(9.4,18.675) 286(9,18.675) 287(8.6,18.675) 288(8.2,18.675) 289(7.8,18.675) 290(7.4,18.675) 291(7,18.675) 292(6.6,18.675) 293(6.2,18.675) 294(5.8,18.675) 295(5.4,18.675) 296(5,18.675) 297(4.6,18.675) 298(4.2,18.675) 299(3.8,18.675) 300(3.4,18.675) 301(3,18.675) 302(2.6,18.675) 303(2.2,18.675) 304(1.8,18.675) 305(1.4,18.675) 306(1,18.675) 307(0.6,18.675) 308(0.2,18.675) 309(-0.2,18.675) 310(-0.6,18.675) 311(-1,18.675) 312(-1.4,18.675) 313(-1.8,18.675) 314(-2.2,18.675) 315(-2.6,18.675) 316(-3,18.675) 317(-3.4,18.675) 318(-3.8,18.675) 319(-4.2,18.675) 320(-4.6,18.675) 321(-5,18.675) 322(-5.4,18.675) 323(-5.8,18.675) 324(-6.2,18.675) 325(-6.6,18.675) 326(-7,18.675) 327(-7.4,18.675) 328(-7.8,18.675) 329(-8.2,18.675) 330(-8.6,18.675) 331(-9,18.675) 332(-9.4,18.675) 333(-9.8,18.675) 334(-10.2,18.675) 335(-10.6,18.675) 336(-11,18.675) 337(-11.4,18.675) 338(-11.8,18.675) 339(-12.2,18.675) 340(-12.6,18.675) 341(-13,18.675) 342(-13.4,18.675) 343(-13.8,18.675) 344(-14.2,18.675) 345(-14.6,18.675) 346(-15,18.675) 347(-15.4,18.675) 348(-15.8,18.675) 349(-16.2,18.675) 350(-16.6,18.675) 351(-17,18.675) 352(-17.4,18.675)
Top Overlay:
  circle w0.6: c-16.3,16.3 r0.3
  circle w0.25: c-18.675,18.1 r0.125
  lines w0.2: -17.3,-17.3 17.3,-17.3 17.3,17.3 -17.3,17.3 -17.3,-17.3
Mechanical 13:
  circle w0.1: c-17.1,17.1 r0.5
  lines w0.1: -18,-18 18,-18 18,18 -18,18 -18,-18
Mechanical 15:
  lines w0.1: -0.5,0 0.5,0 ; 0,-0.5 0,0.5 ; -20.15,-20.15 20.15,-20.15 20.15,20.15 -20.15,20.15 -20.15,-20.15
3D body: height 4.2, standoff 0, extent -18,-18 18,18

## SQFP40P4200X4200-384M [mm] "Shrink QFP, 384-Leads, Body 40x40mm, Pitch 0.4mm, IPC Low Density"
height 4.2
pads (384):
  oval 2.1x0.3 smd: 1(-20.6,19) 2(-20.6,18.6) 3(-20.6,18.2) 4(-20.6,17.8) 5(-20.6,17.4) 6(-20.6,17) 7(-20.6,16.6) 8(-20.6,16.2) 9(-20.6,15.8) 10(-20.6,15.4) 11(-20.6,15) 12(-20.6,14.6) 13(-20.6,14.2) 14(-20.6,13.8) 15(-20.6,13.4) 16(-20.6,13) 17(-20.6,12.6) 18(-20.6,12.2) 19(-20.6,11.8) 20(-20.6,11.4) 21(-20.6,11) 22(-20.6,10.6) 23(-20.6,10.2) 24(-20.6,9.8) 25(-20.6,9.4) 26(-20.6,9) 27(-20.6,8.6) 28(-20.6,8.2) 29(-20.6,7.8) 30(-20.6,7.4) 31(-20.6,7) 32(-20.6,6.6) 33(-20.6,6.2) 34(-20.6,5.8) 35(-20.6,5.4) 36(-20.6,5) 37(-20.6,4.6) 38(-20.6,4.2) 39(-20.6,3.8) 40(-20.6,3.4) 41(-20.6,3) 42(-20.6,2.6) 43(-20.6,2.2) 44(-20.6,1.8) 45(-20.6,1.4) 46(-20.6,1) 47(-20.6,0.6) 48(-20.6,0.2) 49(-20.6,-0.2) 50(-20.6,-0.6) 51(-20.6,-1) 52(-20.6,-1.4) 53(-20.6,-1.8) 54(-20.6,-2.2) 55(-20.6,-2.6) 56(-20.6,-3) 57(-20.6,-3.4) 58(-20.6,-3.8) 59(-20.6,-4.2) 60(-20.6,-4.6) 61(-20.6,-5) 62(-20.6,-5.4) 63(-20.6,-5.8) 64(-20.6,-6.2) 65(-20.6,-6.6) 66(-20.6,-7) 67(-20.6,-7.4) 68(-20.6,-7.8) 69(-20.6,-8.2) 70(-20.6,-8.6) 71(-20.6,-9) 72(-20.6,-9.4) 73(-20.6,-9.8) 74(-20.6,-10.2) 75(-20.6,-10.6) 76(-20.6,-11) 77(-20.6,-11.4) 78(-20.6,-11.8) 79(-20.6,-12.2) 80(-20.6,-12.6) 81(-20.6,-13) 82(-20.6,-13.4) 83(-20.6,-13.8) 84(-20.6,-14.2) 85(-20.6,-14.6) 86(-20.6,-15) 87(-20.6,-15.4) 88(-20.6,-15.8) 89(-20.6,-16.2) 90(-20.6,-16.6) 91(-20.6,-17) 92(-20.6,-17.4) 93(-20.6,-17.8) 94(-20.6,-18.2) 95(-20.6,-18.6) 96(-20.6,-19) 193(20.6,-19) 194(20.6,-18.6) 195(20.6,-18.2) 196(20.6,-17.8) 197(20.6,-17.4) 198(20.6,-17) 199(20.6,-16.6) 200(20.6,-16.2) 201(20.6,-15.8) 202(20.6,-15.4) 203(20.6,-15) 204(20.6,-14.6) 205(20.6,-14.2) 206(20.6,-13.8) 207(20.6,-13.4) 208(20.6,-13) 209(20.6,-12.6) 210(20.6,-12.2) 211(20.6,-11.8) 212(20.6,-11.4) 213(20.6,-11) 214(20.6,-10.6) 215(20.6,-10.2) 216(20.6,-9.8) 217(20.6,-9.4) 218(20.6,-9) 219(20.6,-8.6) 220(20.6,-8.2) 221(20.6,-7.8) 222(20.6,-7.4) 223(20.6,-7) 224(20.6,-6.6) 225(20.6,-6.2) 226(20.6,-5.8) 227(20.6,-5.4) 228(20.6,-5) 229(20.6,-4.6) 230(20.6,-4.2) 231(20.6,-3.8) 232(20.6,-3.4) 233(20.6,-3) 234(20.6,-2.6) 235(20.6,-2.2) 236(20.6,-1.8) 237(20.6,-1.4) 238(20.6,-1) 239(20.6,-0.6) 240(20.6,-0.2) 241(20.6,0.2) 242(20.6,0.6) 243(20.6,1) 244(20.6,1.4) 245(20.6,1.8) 246(20.6,2.2) 247(20.6,2.6) 248(20.6,3) 249(20.6,3.4) 250(20.6,3.8) 251(20.6,4.2) 252(20.6,4.6) 253(20.6,5) 254(20.6,5.4) 255(20.6,5.8) 256(20.6,6.2) 257(20.6,6.6) 258(20.6,7) 259(20.6,7.4) 260(20.6,7.8) 261(20.6,8.2) 262(20.6,8.6) 263(20.6,9) 264(20.6,9.4) 265(20.6,9.8) 266(20.6,10.2) 267(20.6,10.6) 268(20.6,11) 269(20.6,11.4) 270(20.6,11.8) 271(20.6,12.2) 272(20.6,12.6) 273(20.6,13) 274(20.6,13.4) 275(20.6,13.8) 276(20.6,14.2) 277(20.6,14.6) 278(20.6,15) 279(20.6,15.4) 280(20.6,15.8) 281(20.6,16.2) 282(20.6,16.6) 283(20.6,17) 284(20.6,17.4) 285(20.6,17.8) 286(20.6,18.2) 287(20.6,18.6) 288(20.6,19)
  oval 0.3x2.1 smd: 97(-19,-20.6) 98(-18.6,-20.6) 99(-18.2,-20.6) 100(-17.8,-20.6) 101(-17.4,-20.6) 102(-17,-20.6) 103(-16.6,-20.6) 104(-16.2,-20.6) 105(-15.8,-20.6) 106(-15.4,-20.6) 107(-15,-20.6) 108(-14.6,-20.6) 109(-14.2,-20.6) 110(-13.8,-20.6) 111(-13.4,-20.6) 112(-13,-20.6) 113(-12.6,-20.6) 114(-12.2,-20.6) 115(-11.8,-20.6) 116(-11.4,-20.6) 117(-11,-20.6) 118(-10.6,-20.6) 119(-10.2,-20.6) 120(-9.8,-20.6) 121(-9.4,-20.6) 122(-9,-20.6) 123(-8.6,-20.6) 124(-8.2,-20.6) 125(-7.8,-20.6) 126(-7.4,-20.6) 127(-7,-20.6) 128(-6.6,-20.6) 129(-6.2,-20.6) 130(-5.8,-20.6) 131(-5.4,-20.6) 132(-5,-20.6) 133(-4.6,-20.6) 134(-4.2,-20.6) 135(-3.8,-20.6) 136(-3.4,-20.6) 137(-3,-20.6) 138(-2.6,-20.6) 139(-2.2,-20.6) 140(-1.8,-20.6) 141(-1.4,-20.6) 142(-1,-20.6) 143(-0.6,-20.6) 144(-0.2,-20.6) 145(0.2,-20.6) 146(0.6,-20.6) 147(1,-20.6) 148(1.4,-20.6) 149(1.8,-20.6) 150(2.2,-20.6) 151(2.6,-20.6) 152(3,-20.6) 153(3.4,-20.6) 154(3.8,-20.6) 155(4.2,-20.6) 156(4.6,-20.6) 157(5,-20.6) 158(5.4,-20.6) 159(5.8,-20.6) 160(6.2,-20.6) 161(6.6,-20.6) 162(7,-20.6) 163(7.4,-20.6) 164(7.8,-20.6) 165(8.2,-20.6) 166(8.6,-20.6) 167(9,-20.6) 168(9.4,-20.6) 169(9.8,-20.6) 170(10.2,-20.6) 171(10.6,-20.6) 172(11,-20.6) 173(11.4,-20.6) 174(11.8,-20.6) 175(12.2,-20.6) 176(12.6,-20.6) 177(13,-20.6) 178(13.4,-20.6) 179(13.8,-20.6) 180(14.2,-20.6) 181(14.6,-20.6) 182(15,-20.6) 183(15.4,-20.6) 184(15.8,-20.6) 185(16.2,-20.6) 186(16.6,-20.6) 187(17,-20.6) 188(17.4,-20.6) 189(17.8,-20.6) 190(18.2,-20.6) 191(18.6,-20.6) 192(19,-20.6) 289(19,20.6) 290(18.6,20.6) 291(18.2,20.6) 292(17.8,20.6) 293(17.4,20.6) 294(17,20.6) 295(16.6,20.6) 296(16.2,20.6) 297(15.8,20.6) 298(15.4,20.6) 299(15,20.6) 300(14.6,20.6) 301(14.2,20.6) 302(13.8,20.6) 303(13.4,20.6) 304(13,20.6) 305(12.6,20.6) 306(12.2,20.6) 307(11.8,20.6) 308(11.4,20.6) 309(11,20.6) 310(10.6,20.6) 311(10.2,20.6) 312(9.8,20.6) 313(9.4,20.6) 314(9,20.6) 315(8.6,20.6) 316(8.2,20.6) 317(7.8,20.6) 318(7.4,20.6) 319(7,20.6) 320(6.6,20.6) 321(6.2,20.6) 322(5.8,20.6) 323(5.4,20.6) 324(5,20.6) 325(4.6,20.6) 326(4.2,20.6) 327(3.8,20.6) 328(3.4,20.6) 329(3,20.6) 330(2.6,20.6) 331(2.2,20.6) 332(1.8,20.6) 333(1.4,20.6) 334(1,20.6) 335(0.6,20.6) 336(0.2,20.6) 337(-0.2,20.6) 338(-0.6,20.6) 339(-1,20.6) 340(-1.4,20.6) 341(-1.8,20.6) 342(-2.2,20.6) 343(-2.6,20.6) 344(-3,20.6) 345(-3.4,20.6) 346(-3.8,20.6) 347(-4.2,20.6) 348(-4.6,20.6) 349(-5,20.6) 350(-5.4,20.6) 351(-5.8,20.6) 352(-6.2,20.6) 353(-6.6,20.6) 354(-7,20.6) 355(-7.4,20.6) 356(-7.8,20.6) 357(-8.2,20.6) 358(-8.6,20.6) 359(-9,20.6) 360(-9.4,20.6) 361(-9.8,20.6) 362(-10.2,20.6) 363(-10.6,20.6) 364(-11,20.6) 365(-11.4,20.6) 366(-11.8,20.6) 367(-12.2,20.6) 368(-12.6,20.6) 369(-13,20.6) 370(-13.4,20.6) 371(-13.8,20.6) 372(-14.2,20.6) 373(-14.6,20.6) 374(-15,20.6) 375(-15.4,20.6) 376(-15.8,20.6) 377(-16.2,20.6) 378(-16.6,20.6) 379(-17,20.6) 380(-17.4,20.6) 381(-17.8,20.6) 382(-18.2,20.6) 383(-18.6,20.6) 384(-19,20.6)
Top Overlay:
  circle w0.6: c-18.15,18.15 r0.3
  circle w0.25: c-20.6,19.7 r0.125
  lines w0.2: -19.15,-19.15 19.15,-19.15 19.15,19.15 -19.15,19.15 -19.15,-19.15
Mechanical 13:
  circle w0.1: c-19.1,19.1 r0.5
  lines w0.1: -20,-20 20,-20 20,20 -20,20 -20,-20
Mechanical 15:
  lines w0.1: -0.5,0 0.5,0 ; 0,-0.5 0,0.5 ; -22.15,-22.15 22.15,-22.15 22.15,22.15 -22.15,22.15 -22.15,-22.15
3D body: height 4.2, standoff 0, extent -20,-20 20,20

## SQFP40P4200X4200-392M [mm] "Shrink QFP, 392-Leads, Body 40x40mm, Pitch 0.4mm, IPC Low Density"
height 4.2
pads (392):
  oval 1.95x0.3 smd: 1(-20.675,19.4) 2(-20.675,19) 3(-20.675,18.6) 4(-20.675,18.2) 5(-20.675,17.8) 6(-20.675,17.4) 7(-20.675,17) 8(-20.675,16.6) 9(-20.675,16.2) 10(-20.675,15.8) 11(-20.675,15.4) 12(-20.675,15) 13(-20.675,14.6) 14(-20.675,14.2) 15(-20.675,13.8) 16(-20.675,13.4) 17(-20.675,13) 18(-20.675,12.6) 19(-20.675,12.2) 20(-20.675,11.8) 21(-20.675,11.4) 22(-20.675,11) 23(-20.675,10.6) 24(-20.675,10.2) 25(-20.675,9.8) 26(-20.675,9.4) 27(-20.675,9) 28(-20.675,8.6) 29(-20.675,8.2) 30(-20.675,7.8) 31(-20.675,7.4) 32(-20.675,7) 33(-20.675,6.6) 34(-20.675,6.2) 35(-20.675,5.8) 36(-20.675,5.4) 37(-20.675,5) 38(-20.675,4.6) 39(-20.675,4.2) 40(-20.675,3.8) 41(-20.675,3.4) 42(-20.675,3) 43(-20.675,2.6) 44(-20.675,2.2) 45(-20.675,1.8) 46(-20.675,1.4) 47(-20.675,1) 48(-20.675,0.6) 49(-20.675,0.2) 50(-20.675,-0.2) 51(-20.675,-0.6) 52(-20.675,-1) 53(-20.675,-1.4) 54(-20.675,-1.8) 55(-20.675,-2.2) 56(-20.675,-2.6) 57(-20.675,-3) 58(-20.675,-3.4) 59(-20.675,-3.8) 60(-20.675,-4.2) 61(-20.675,-4.6) 62(-20.675,-5) 63(-20.675,-5.4) 64(-20.675,-5.8) 65(-20.675,-6.2) 66(-20.675,-6.6) 67(-20.675,-7) 68(-20.675,-7.4) 69(-20.675,-7.8) 70(-20.675,-8.2) 71(-20.675,-8.6) 72(-20.675,-9) 73(-20.675,-9.4) 74(-20.675,-9.8) 75(-20.675,-10.2) 76(-20.675,-10.6) 77(-20.675,-11) 78(-20.675,-11.4) 79(-20.675,-11.8) 80(-20.675,-12.2) 81(-20.675,-12.6) 82(-20.675,-13) 83(-20.675,-13.4) 84(-20.675,-13.8) 85(-20.675,-14.2) 86(-20.675,-14.6) 87(-20.675,-15) 88(-20.675,-15.4) 89(-20.675,-15.8) 90(-20.675,-16.2) 91(-20.675,-16.6) 92(-20.675,-17) 93(-20.675,-17.4) 94(-20.675,-17.8) 95(-20.675,-18.2) 96(-20.675,-18.6) 97(-20.675,-19) 98(-20.675,-19.4) 197(20.675,-19.4) 198(20.675,-19) 199(20.675,-18.6) 200(20.675,-18.2) 201(20.675,-17.8) 202(20.675,-17.4) 203(20.675,-17) 204(20.675,-16.6) 205(20.675,-16.2) 206(20.675,-15.8) 207(20.675,-15.4) 208(20.675,-15) 209(20.675,-14.6) 210(20.675,-14.2) 211(20.675,-13.8) 212(20.675,-13.4) 213(20.675,-13) 214(20.675,-12.6) 215(20.675,-12.2) 216(20.675,-11.8) 217(20.675,-11.4) 218(20.675,-11) 219(20.675,-10.6) 220(20.675,-10.2) 221(20.675,-9.8) 222(20.675,-9.4) 223(20.675,-9) 224(20.675,-8.6) 225(20.675,-8.2) 226(20.675,-7.8) 227(20.675,-7.4) 228(20.675,-7) 229(20.675,-6.6) 230(20.675,-6.2) 231(20.675,-5.8) 232(20.675,-5.4) 233(20.675,-5) 234(20.675,-4.6) 235(20.675,-4.2) 236(20.675,-3.8) 237(20.675,-3.4) 238(20.675,-3) 239(20.675,-2.6) 240(20.675,-2.2) 241(20.675,-1.8) 242(20.675,-1.4) 243(20.675,-1) 244(20.675,-0.6) 245(20.675,-0.2) 246(20.675,0.2) 247(20.675,0.6) 248(20.675,1) 249(20.675,1.4) 250(20.675,1.8) 251(20.675,2.2) 252(20.675,2.6) 253(20.675,3) 254(20.675,3.4) 255(20.675,3.8) 256(20.675,4.2) 257(20.675,4.6) 258(20.675,5) 259(20.675,5.4) 260(20.675,5.8) 261(20.675,6.2) 262(20.675,6.6) 263(20.675,7) 264(20.675,7.4) 265(20.675,7.8) 266(20.675,8.2) 267(20.675,8.6) 268(20.675,9) 269(20.675,9.4) 270(20.675,9.8) 271(20.675,10.2) 272(20.675,10.6) 273(20.675,11) 274(20.675,11.4) 275(20.675,11.8) 276(20.675,12.2) 277(20.675,12.6) 278(20.675,13) 279(20.675,13.4) 280(20.675,13.8) 281(20.675,14.2) 282(20.675,14.6) 283(20.675,15) 284(20.675,15.4) 285(20.675,15.8) 286(20.675,16.2) 287(20.675,16.6) 288(20.675,17) 289(20.675,17.4) 290(20.675,17.8) 291(20.675,18.2) 292(20.675,18.6) 293(20.675,19) 294(20.675,19.4)
  oval 0.3x1.95 smd: 99(-19.4,-20.675) 100(-19,-20.675) 101(-18.6,-20.675) 102(-18.2,-20.675) 103(-17.8,-20.675) 104(-17.4,-20.675) 105(-17,-20.675) 106(-16.6,-20.675) 107(-16.2,-20.675) 108(-15.8,-20.675) 109(-15.4,-20.675) 110(-15,-20.675) 111(-14.6,-20.675) 112(-14.2,-20.675) 113(-13.8,-20.675) 114(-13.4,-20.675) 115(-13,-20.675) 116(-12.6,-20.675) 117(-12.2,-20.675) 118(-11.8,-20.675) 119(-11.4,-20.675) 120(-11,-20.675) 121(-10.6,-20.675) 122(-10.2,-20.675) 123(-9.8,-20.675) 124(-9.4,-20.675) 125(-9,-20.675) 126(-8.6,-20.675) 127(-8.2,-20.675) 128(-7.8,-20.675) 129(-7.4,-20.675) 130(-7,-20.675) 131(-6.6,-20.675) 132(-6.2,-20.675) 133(-5.8,-20.675) 134(-5.4,-20.675) 135(-5,-20.675) 136(-4.6,-20.675) 137(-4.2,-20.675) 138(-3.8,-20.675) 139(-3.4,-20.675) 140(-3,-20.675) 141(-2.6,-20.675) 142(-2.2,-20.675) 143(-1.8,-20.675) 144(-1.4,-20.675) 145(-1,-20.675) 146(-0.6,-20.675) 147(-0.2,-20.675) 148(0.2,-20.675) 149(0.6,-20.675) 150(1,-20.675) 151(1.4,-20.675) 152(1.8,-20.675) 153(2.2,-20.675) 154(2.6,-20.675) 155(3,-20.675) 156(3.4,-20.675) 157(3.8,-20.675) 158(4.2,-20.675) 159(4.6,-20.675) 160(5,-20.675) 161(5.4,-20.675) 162(5.8,-20.675) 163(6.2,-20.675) 164(6.6,-20.675) 165(7,-20.675) 166(7.4,-20.675) 167(7.8,-20.675) 168(8.2,-20.675) 169(8.6,-20.675) 170(9,-20.675) 171(9.4,-20.675) 172(9.8,-20.675) 173(10.2,-20.675) 174(10.6,-20.675) 175(11,-20.675) 176(11.4,-20.675) 177(11.8,-20.675) 178(12.2,-20.675) 179(12.6,-20.675) 180(13,-20.675) 181(13.4,-20.675) 182(13.8,-20.675) 183(14.2,-20.675) 184(14.6,-20.675) 185(15,-20.675) 186(15.4,-20.675) 187(15.8,-20.675) 188(16.2,-20.675) 189(16.6,-20.675) 190(17,-20.675) 191(17.4,-20.675) 192(17.8,-20.675) 193(18.2,-20.675) 194(18.6,-20.675) 195(19,-20.675) 196(19.4,-20.675) 295(19.4,20.675) 296(19,20.675) 297(18.6,20.675) 298(18.2,20.675) 299(17.8,20.675) 300(17.4,20.675) 301(17,20.675) 302(16.6,20.675) 303(16.2,20.675) 304(15.8,20.675) 305(15.4,20.675) 306(15,20.675) 307(14.6,20.675) 308(14.2,20.675) 309(13.8,20.675) 310(13.4,20.675) 311(13,20.675) 312(12.6,20.675) 313(12.2,20.675) 314(11.8,20.675) 315(11.4,20.675) 316(11,20.675) 317(10.6,20.675) 318(10.2,20.675) 319(9.8,20.675) 320(9.4,20.675) 321(9,20.675) 322(8.6,20.675) 323(8.2,20.675) 324(7.8,20.675) 325(7.4,20.675) 326(7,20.675) 327(6.6,20.675) 328(6.2,20.675) 329(5.8,20.675) 330(5.4,20.675) 331(5,20.675) 332(4.6,20.675) 333(4.2,20.675) 334(3.8,20.675) 335(3.4,20.675) 336(3,20.675) 337(2.6,20.675) 338(2.2,20.675) 339(1.8,20.675) 340(1.4,20.675) 341(1,20.675) 342(0.6,20.675) 343(0.2,20.675) 344(-0.2,20.675) 345(-0.6,20.675) 346(-1,20.675) 347(-1.4,20.675) 348(-1.8,20.675) 349(-2.2,20.675) 350(-2.6,20.675) 351(-3,20.675) 352(-3.4,20.675) 353(-3.8,20.675) 354(-4.2,20.675) 355(-4.6,20.675) 356(-5,20.675) 357(-5.4,20.675) 358(-5.8,20.675) 359(-6.2,20.675) 360(-6.6,20.675) 361(-7,20.675) 362(-7.4,20.675) 363(-7.8,20.675) 364(-8.2,20.675) 365(-8.6,20.675) 366(-9,20.675) 367(-9.4,20.675) 368(-9.8,20.675) 369(-10.2,20.675) 370(-10.6,20.675) 371(-11,20.675) 372(-11.4,20.675) 373(-11.8,20.675) 374(-12.2,20.675) 375(-12.6,20.675) 376(-13,20.675) 377(-13.4,20.675) 378(-13.8,20.675) 379(-14.2,20.675) 380(-14.6,20.675) 381(-15,20.675) 382(-15.4,20.675) 383(-15.8,20.675) 384(-16.2,20.675) 385(-16.6,20.675) 386(-17,20.675) 387(-17.4,20.675) 388(-17.8,20.675) 389(-18.2,20.675) 390(-18.6,20.675) 391(-19,20.675) 392(-19.4,20.675)
Top Overlay:
  circle w0.6: c-18.3,18.3 r0.3
  circle w0.25: c-20.675,20.1 r0.125
  lines w0.2: -19.3,-19.3 19.3,-19.3 19.3,19.3 -19.3,19.3 -19.3,-19.3
Mechanical 13:
  circle w0.1: c-19.1,19.1 r0.5
  lines w0.1: -20,-20 20,-20 20,20 -20,20 -20,-20
Mechanical 15:
  lines w0.1: -0.5,0 0.5,0 ; 0,-0.5 0,0.5 ; -22.15,-22.15 22.15,-22.15 22.15,22.15 -22.15,22.15 -22.15,-22.15
3D body: height 4.2, standoff 0, extent -20,-20 20,20